# EAGLE library part Z573M (library nixietubes-western)
Cold cathode, neon filled, side viewing indicator tubes. The Z573M is coated with a red filter to improve the contrast of display. Numeral height: 13 mm Minimum distance between mounting centres: 19 mm Numerals: 1 2 3 4 5 6 7 8 9 0 Decimal point: to the right of the numerals Cathode current, minimum: 1.5 mA, maximum: 2.5 mA, maximum peak: 12mA Minimum supply voltage: 170 V
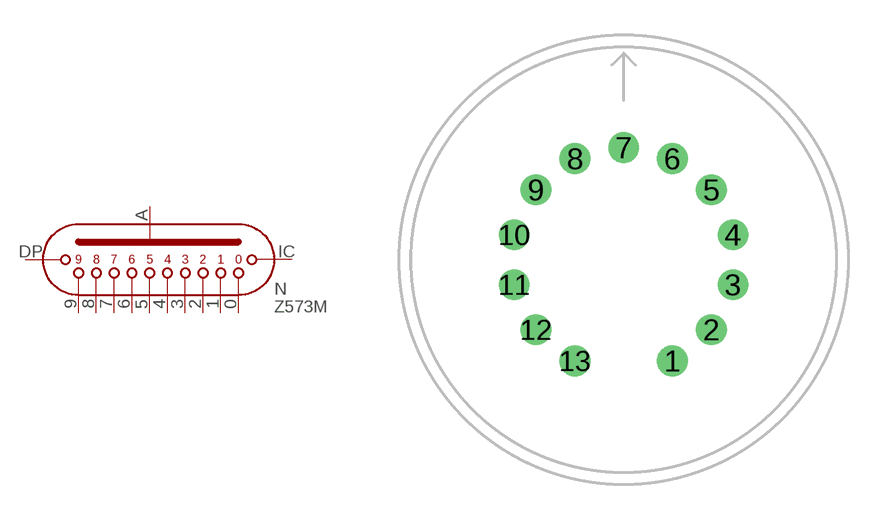
[diagram p0: symbol with the pads of Z570M; footprint Z570M]

Designator prefix N

## Z573M  [Z570M]
1  1
2  2
3  3
4  IC
5  4
6  5
7  6
8  7
9  8
10  DP
11  9
12  0
13  A

## Footprint Z570M (pad centres in mm)
This is the footprint suitable for the following nixie tubes: * Z570M * Z5700M * Z573M * Z5730M * Z574M * Z5740M Tube diameter: 19mm Height from PCB: 47.6mm
drill 0.8: 1 2.061,-4.28; 2 3.714,-2.962; 3 4.631,-1.057; 4 4.631,1.057; 5 3.714,2.962; 6 2.061,4.28; 7 0,4.75; 8 -2.061,4.28; 9 -3.714,2.962; 10 -4.631,1.057; 11 -4.631,-1.057; 12 -3.714,-2.962; 13 -2.061,-4.28